# Altium schematic symbol library JR_main.SchLib: 6 symbols
Pins are listed as number, name and electrical type; pins without a type are passive.

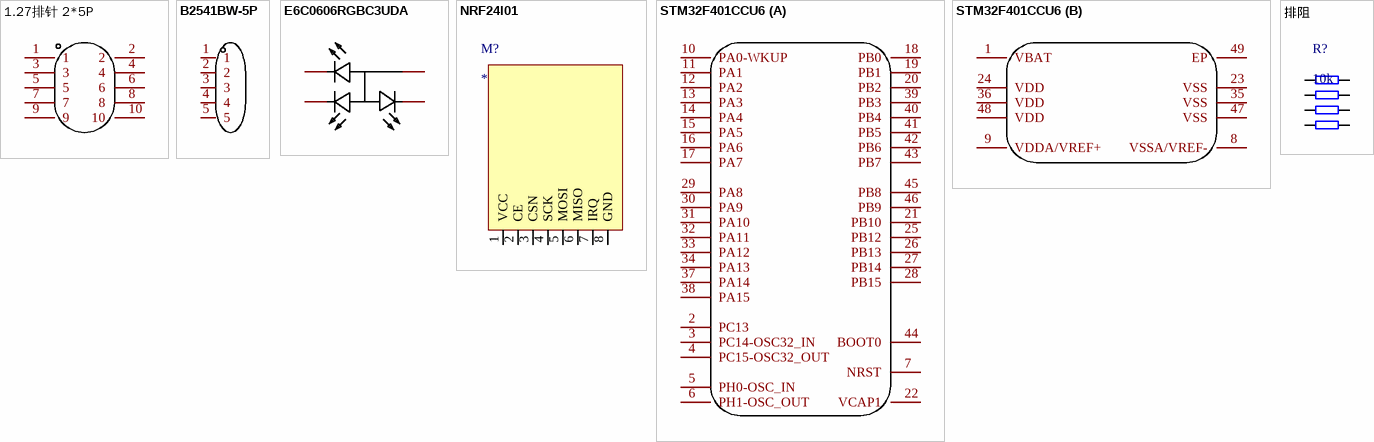
[diagram p0: symbols 1.27排针 2*5P to 排阻]

## 1.27排针 2*5P
designator H?, comment 2343U-205CNG1SNT01  (value not drawn)
Manufacturer: 华宇创; Add into BOM: yes; Pitch: 1.27mm; Number of Holes: 10; Holes Structure: 2x5P; Name: 2343U-205CNG1SNT01; Symbol: 2343U-205CNG1SNT01; Device: 2343U-205CNG1SNT01; LCSC Part Name: 1.27mm 2x5P U型/环保耐高温/镀金; Supplier Part: C350287; Manufacturer Part: 2343U-205CNG1SNT01; Supplier Footprint: 插件,P=1.27mm; JLCPCB Part Class: Extended Part; Datasheet: https://atta.szlcsc.com/upload/public/pdf/source/20181220/C350287_D742F1AEC20B5CCE37A83D869655120C.pdf; Supplier: LCSC; Convert to PCB: yes; Number of Rows: 2; Row Spacing: 1.27mm; Mounting Type: 直插; Insulation Height: -; Contact Material: 磷青铜; Contact Plating: -
footprint HDR-TH_10P-P1.27-V-F-R2-C5-S1.27-1
footprint CONN-SMD_10P-P1.27_XFCN_PZ127VS-12-10-H10-A38
pins: 1, 2, 3, 4, 5, 6, 7, 8, 9, 10

## B2541BW-5P
designator CN?  (value not drawn)
Manufacturer: CJT(长江连接器); Add into BOM: yes; Pitch: 2.54mm; Pins Structure: 1x5P; Number of PINs Per Row: 5; Name: B2541BW-5P; Symbol: B2541BW-5P; Device: B2541BW-5P; LCSC Part Name: B2541BW-5P; Supplier Part: C339791; Manufacturer Part: B2541BW-5P; Supplier Footprint: 插件,P=2.5mm; JLCPCB Part Class: Extended Part; Datasheet: https://atta.szlcsc.com/upload/public/pdf/watermark/20190926/C339791_B20238F2CD55658633FCD511B58CAA6D.pdf; Supplier: LCSC; Convert to PCB: yes; Reference Series: -; Number of Rows: 1; Row Spacing: -; Mounting Style: -; Contact Material: 磷青铜
footprint CONN-TH_B2541BW-5P
pins: 1, 2, 3, 4, 5

## E6C0606RGBC3UDA
designator LED?  (value not drawn)
Manufacturer: ekinglux(亿晶源); Add into BOM: yes; Emitted Color: RGB三色; Name: E6C0606RGBC3UDA; Symbol: E6C0606RGBC3UDA; Device: E6C0606RGBC3UDA; LCSC Part Name: RGB三色; Supplier Part: C375569; Manufacturer Part: E6C0606RGBC3UDA; Supplier Footprint: SMD,1.6x1.6x0.6mm; JLCPCB Part Class: Extended Part; Datasheet: https://atta.szlcsc.com/upload/public/pdf/source/20220330/8DE12FB9881A833E867FD7AF6894B416.pdf; Supplier: LCSC; Convert to PCB: yes
footprint LED-SMD_4P-L1.6-W1.6-TL-FD
pins: 1 -, 2 +, 3 -, 4 -

## NRF24l01
designator M?
footprint NRF24l01
pins: 1 VCC, 2 CE, 3 CSN, 4 SCK, 5 MOSI, 6 MISO, 7 IRQ, 8 GND

## STM32F401CCU6
designator U?  (value not drawn)
Manufacturer: ST(意法半导体); Add into BOM: yes; Speed: 84MHz; Voltage - Supply (Vcc/Vdd): 1.7V ~ 3.6V; Program Memory Size: 256KB; RAM Size: 64KB; Number of I/O: 36; A/D: 10x12bit; PWM: 32; UART/USART: 3 USART; SPI: 3; USB Device: 1; Name: STM32F401CCU6; Symbol: STM32F401CCU6; Device: STM32F401CCU6; LCSC Part Name: STM32F401CCU6; Supplier Part: C79861; Manufacturer Part: STM32F401CCU6; Supplier Footprint: UFQFPN-48; JLCPCB Part Class: Extended Part; Datasheet: https://atta.szlcsc.com/upload/public/pdf/source/20160816/1471343009422.pdf; Supplier: LCSC; Convert to PCB: yes; I2C（SMBUS/PMBUS）: 3; USB Host/OTG: 1
footprint UFQFPN-48_L7.0-W7.0-P0.50-BL-EP
part A pins: 2 PC13, 3 PC14-OSC32_IN, 4 PC15-OSC32_OUT, 5 PH0-OSC_IN, 6 PH1-OSC_OUT, 7 NRST, 10 PA0-WKUP, 11 PA1, 12 PA2, 13 PA3, 14 PA4, 15 PA5, 16 PA6, 17 PA7, 18 PB0, 19 PB1, 20 PB2, 21 PB10, 22 VCAP1, 25 PB12, 26 PB13, 27 PB14, 28 PB15, 29 PA8, 30 PA9, 31 PA10, 32 PA11, 33 PA12, 34 PA13, 37 PA14, 38 PA15, 39 PB3, 40 PB4, 41 PB5, 42 PB6, 43 PB7, 44 BOOT0, 45 PB8, 46 PB9
part B pins: 1 VBAT, 8 VSSA/VREF-, 9 VDDA/VREF+, 23 VSS, 24 VDD, 35 VSS, 36 VDD, 47 VSS, 48 VDD, 49 EP

## 排阻
designator R?, comment 10k
Value: 10k
footprint 0402*4
footprint 0603*4
pins: 1, 2, 3, 4, 5, 6, 7, 8